# Altium schematic symbol library Trans,NPN,45V,1A,SOT223.Schlib: 1 symbol
Pins are listed as number, name and electrical type; pins without a type are passive.

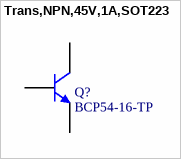
[diagram p0: symbol Trans,NPN,45V,1A,SOT223]

## Trans,NPN,45V,1A,SOT223
designator Q?, comment BCP54-16-TP
Bipolar Transistors - BJT NPN Plastic-Encapsulate Transistors
pins: 1 B, 2 C, 3 E